# Altium schematic symbol library UC-523.SCHLIB: 31 symbols
Pins are listed as number, name and electrical type; pins without a type are passive.

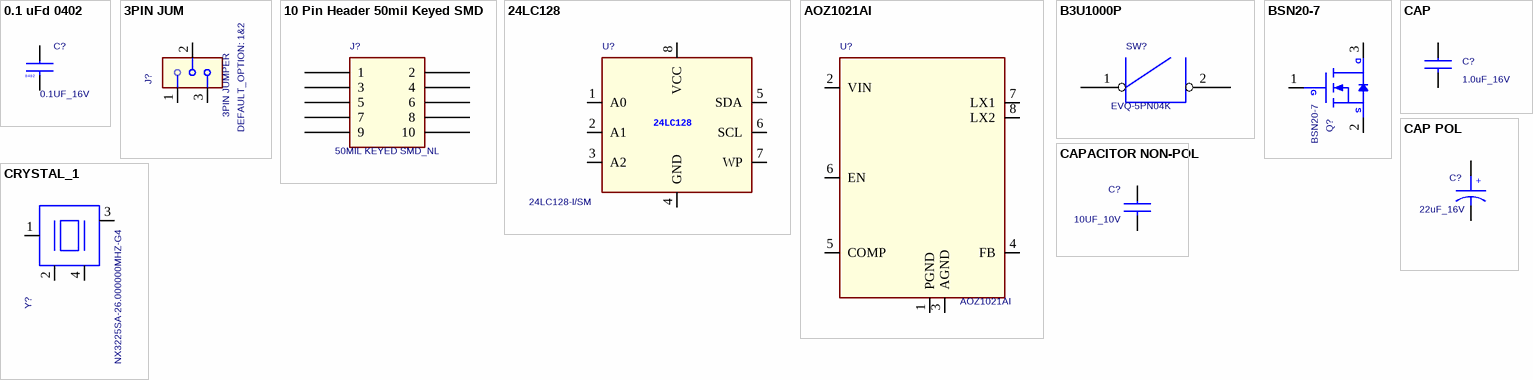
[diagram p0: symbols 0.1 uFd 0402 to CRYSTAL_1]

## 0.1 uFd 0402
designator C?, comment 0.1UF_16V
CAP .1UF 16V CERAMIC Y5V 0402; Cy_part#: 730R-10010; Manufacturer: Panasonic - ECG; Part Number: ECJ-0EF1C104Z; DEVICE: 0p1uFd_0402; CLASS: DISCRETE; ALT_SYMBOLS: C-CC0402_A; VOLTAGE: 16V; Created by: SNF
footprint CAPC1005X55M (Footprint not found)
footprint CC0402
pins: 1, 2
text: 0402

## 3PIN JUM
designator J?, comment 3PIN JUMPER  DEFAULT_OPTION: 1&2
CONN HEADER VERT 3POS .100 TIN; Part Number: 3-644456-3; Manufacturer: Tyco Electronics; Type: Single Row,3Pin Header
footprint TE_3-644456-3 (Footprint not found)
pins: 1, 2, 3

## 10 Pin Header 50mil Keyed SMD
designator J?, comment 50MIL KEYED SMD_NL
CONN HEADER 10 PIN 50MIL KEYED SMD; Part Number: FTSH-105-01-L-DV-K; Manufacturer: Samtec; Cy_part#: 420R-14312; CLASS: IO; Last Edit By: SNF; DEVICE: HDR5x2x50KS
footprint SAMTEC_FTSH-105-01-L-DV-K (Footprint not found)
footprint ftsh-105-xx-x-dv-k
pins: 1, 2, 3, 4, 5, 6, 7, 8, 9, 10

## 24LC128
designator U?, comment 24LC128-I/SM
IC EEPROM 128KBIT 400KHZ 8SOIC; Manufacturer: Microchip Technology; Lead Free: YES; Part Number: 24LC128-I/SM
footprint SOIC127P790X203-8M (Footprint not found)
footprint 8SOIC
pins: 1 A0, 2 A1, 3 A2, 4 GND, 5 SDA, 6 SCL, 7 WP, 8 VCC

## AOZ1021AI
designator U?
IC REG BUCK SYNC ADJ 3A 8SOIC; Manufacturer: Alpha & Omega Semiconductor Inc; Part Number: AOZ1021AI
footprint SOIC127P600X175-8M (Footprint not found)
footprint AOZ1021AI
pins: 1 PGND, 2 VIN, 3 AGND, 4 FB, 5 COMP, 6 EN, 7 LX1, 8 LX2

## B3U1000P
designator SW?, comment EVQ-5PN04K
Part Number: EVQ-5PN04K
footprint SW_EVQ-5PN04K (Footprint not found)
pins: 1, 2

## BSN20-7
designator Q?
MOSFET N-CH 50V 500MA SOT23; Manufacturer: Diodes Inc; PSpiceTemplate: X^@REFDES %D %G %S @MODEL; Part Number: BSN20-7
footprint SOT92P240X110-3M (Footprint not found)
pins: 1 G, 2 S, 3 D

## CAP
designator C?, comment 1.0uF_16V
CAP - CER, 1uF, 10V, +/-10%, X5R, 0402; Part Class: CAPACITORS; Num Pins: 2; Item Num: P03-15479R; RoHS Compliant: Yes; Lead Free Status: Yes
footprint CAPC1608X90M (Footprint not found)
pins: 1, 2

## CAP POL
designator C?, comment 22uF_16V
CAP TANT 22UF 16V 10% 1206; Manufacturer: Nichicon; Part Number: F951C226KQAAQ2; RoHS Compliant: Yes; Lead Free Status: No
footprint CAPCP3216X100M (Footprint not found)
pins: 1, 2
text: +

## CAPACITOR NON-POL
designator C?, comment 10UF_10V
Manufacturer: *; Part Number: *
footprint CAPC2012X145M (Footprint not found)
pins: 1, 2

## CRYSTAL_1
designator Y?, comment NX3225SA-26.000000MHZ-G4
Manufacturer: NDK; Part Number: NX3225SA-26.000000MHZ-G4
footprint OSCCC250X320X70-4M (Footprint not found)
pins: 1, 2, 3, 4

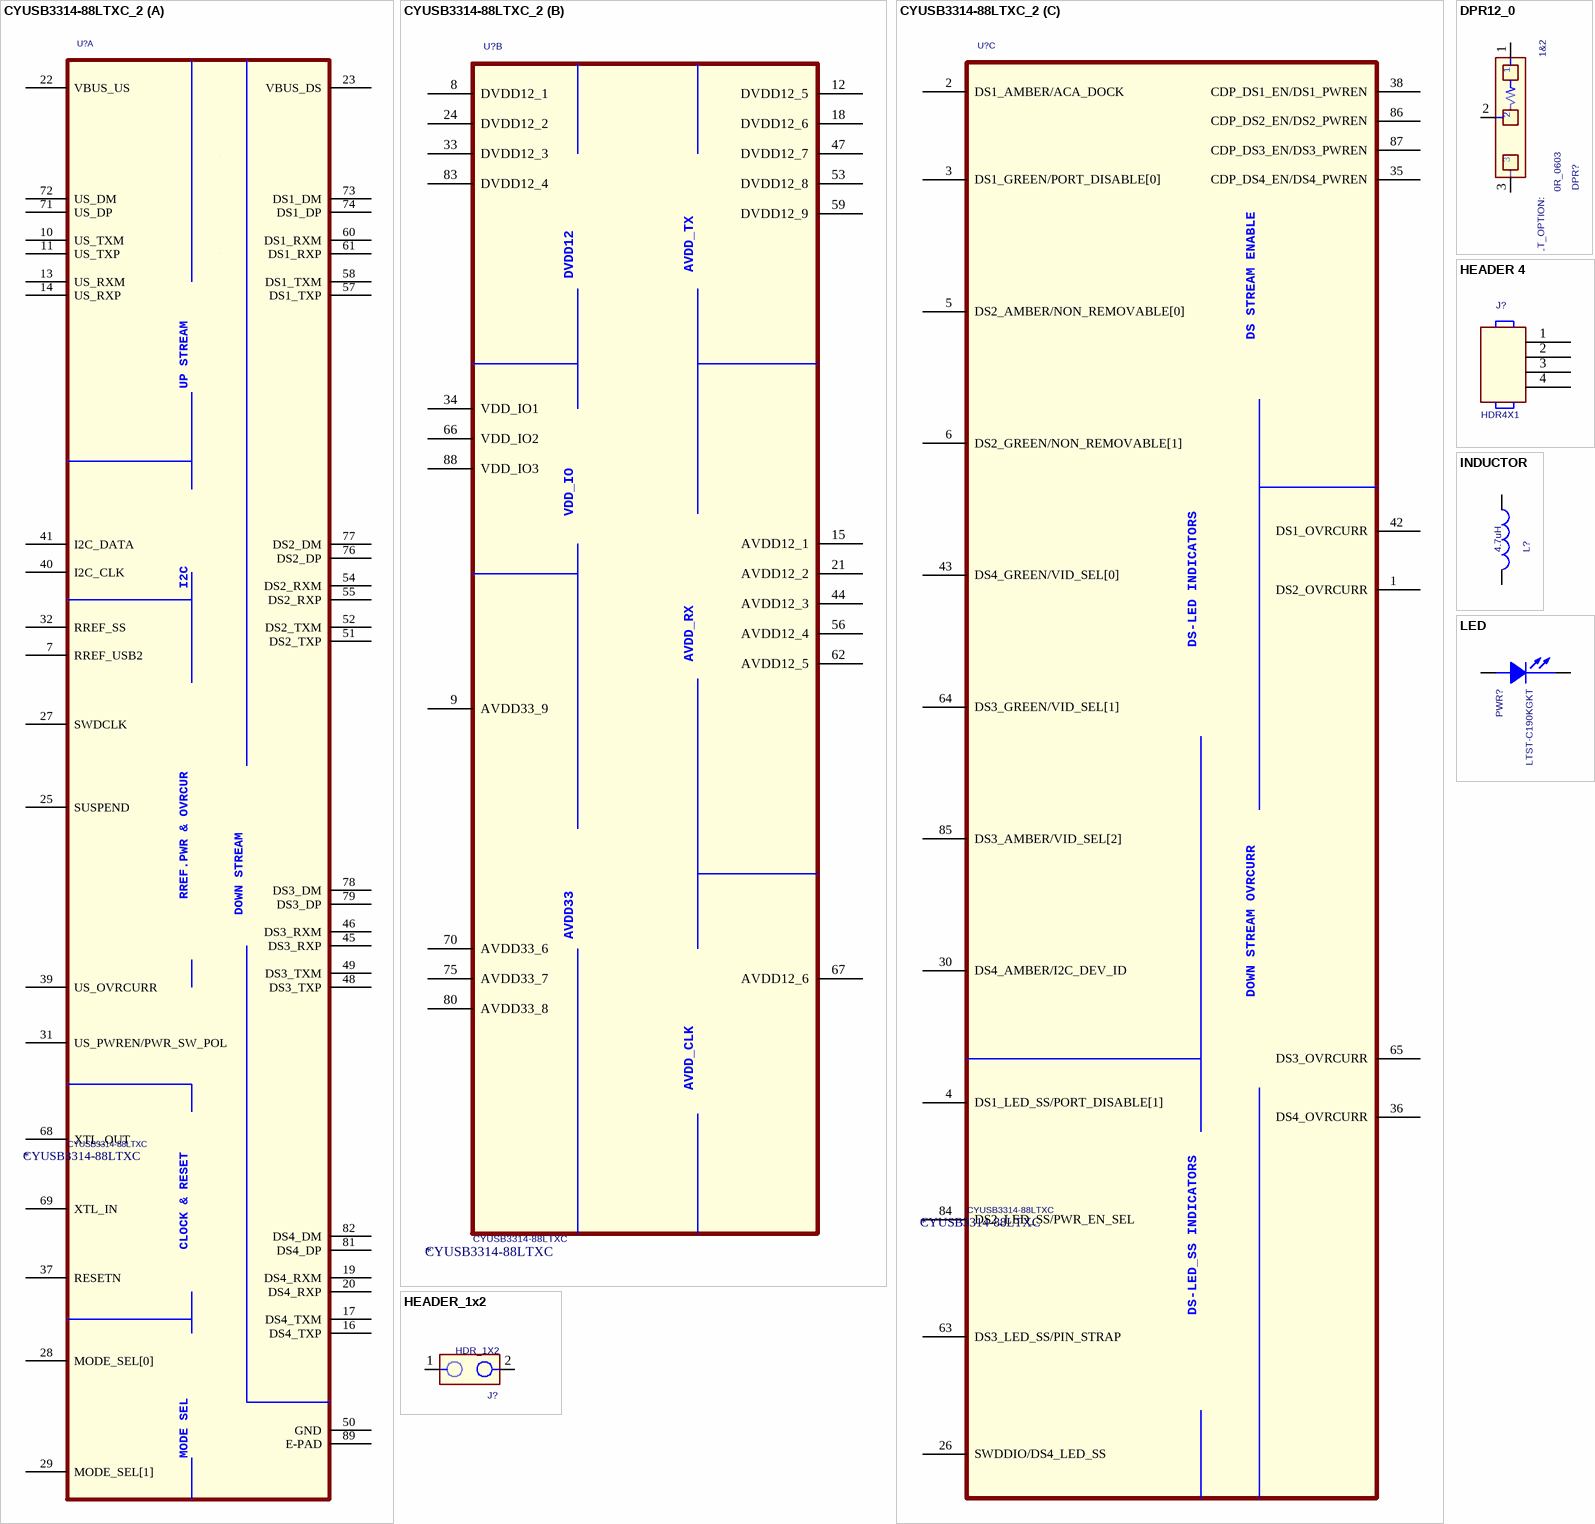
[diagram p1: symbols CYUSB3314-88LTXC_2 to LED]

## CYUSB3314-88LTXC_2
designator U?, comment CYUSB3314-88LTXC
Manufacturer: *; Part Number: CYUSB3314-88LTXC
footprint QFN40P1000X1000X100-89M (Footprint not found)
footprint QFN-88
part A pins: 7 RREF_USB2, 10 US_TXM, 11 US_TXP, 13 US_RXM, 14 US_RXP, 16 DS4_TXP, 17 DS4_TXM, 19 DS4_RXM, 20 DS4_RXP, 22 VBUS_US, 23 VBUS_DS, 25 SUSPEND, 27 SWDCLK, 28 MODE_SEL[0], 29 MODE_SEL[1], 31 US_PWREN/PWR_SW_POL, 32 RREF_SS, 37 RESETN, 39 US_OVRCURR, 40 I2C_CLK, 41 I2C_DATA, 45 DS3_RXP, 46 DS3_RXM, 48 DS3_TXP, 49 DS3_TXM, 50 GND, 51 DS2_TXP, 52 DS2_TXM, 54 DS2_RXM, 55 DS2_RXP, 57 DS1_TXP, 58 DS1_TXM, 60 DS1_RXM, 61 DS1_RXP, 68 XTL_OUT, 69 XTL_IN, 71 US_DP, 72 US_DM, 73 DS1_DM, 74 DS1_DP, 76 DS2_DP, 77 DS2_DM, 78 DS3_DM, 79 DS3_DP, 81 DS4_DP, 82 DS4_DM, 89 E-PAD
part B pins: 8 DVDD12_1, 9 AVDD33_9, 12 DVDD12_5, 15 AVDD12_1, 18 DVDD12_6, 21 AVDD12_2, 24 DVDD12_2, 33 DVDD12_3, 34 VDD_IO1, 44 AVDD12_3, 47 DVDD12_7, 53 DVDD12_8, 56 AVDD12_4, 59 DVDD12_9, 62 AVDD12_5, 66 VDD_IO2, 67 AVDD12_6, 70 AVDD33_6, 75 AVDD33_7, 80 AVDD33_8, 83 DVDD12_4, 88 VDD_IO3
part C pins: 1 DS2_OVRCURR, 2 DS1_AMBER/ACA_DOCK, 3 DS1_GREEN/PORT_DISABLE[0], 4 DS1_LED_SS/PORT_DISABLE[1], 5 DS2_AMBER/NON_REMOVABLE[0], 6 DS2_GREEN/NON_REMOVABLE[1], 26 SWDDIO/DS4_LED_SS, 30 DS4_AMBER/I2C_DEV_ID, 35 CDP_DS4_EN/DS4_PWREN, 36 DS4_OVRCURR, 38 CDP_DS1_EN/DS1_PWREN, 42 DS1_OVRCURR, 43 DS4_GREEN/VID_SEL[0], 63 DS3_LED_SS/PIN_STRAP, 64 DS3_GREEN/VID_SEL[1], 65 DS3_OVRCURR, 84 DS2_LED_SS/PWR_EN_SEL, 85 DS3_AMBER/VID_SEL[2], 86 CDP_DS2_EN/DS2_PWREN, 87 CDP_DS3_EN/DS3_PWREN
part A text: UP STREAM; I2C; RREF.PWR & OVRCUR; DOWN STREAM; CLOCK & RESET; MODE SEL
part B text: AVDD_TX; DVDD12; VDD_IO; AVDD_RX; AVDD33; AVDD_CLK
part C text: DS STREAM ENABLE; DS-LED INDICATORS; DOWN STREAM OVRCURR; DS-LED_SS INDICATORS

## DPR12_0
designator DPR?, comment 0R_0603  Mounting Status: 1&2
Resistor, 4.7K, 0402, 1/10W, 5%; Part Number: ERJ-2GEJ472X
footprint RC0603_3P (Footprint not found)
pins: 1, 2, 3
1 alternate drawing of the same symbol

## HEADER 4
designator J?, comment HDR4X1
CONN HEADER 4POS .100" SNGL GOLD; Manufacturer: Samtec Inc; Part Number: TSW-104-08-G-S; Lead Free: YES
footprint SAMTEC_TSW-104-08-G-S (Footprint not found)
pins: 1, 2, 3, 4

## HEADER_1x2
designator J?, comment HDR_1X2
Manufacturer: Samtec Inc; Part Number: TSW-102-08-G-S; Lead Free: YES
footprint SAMTEC_TSW-102-08-G-S (Footprint not found)
footprint HDR_1X2
pins: 1, 2

## INDUCTOR
designator L?, comment 4.7uH
INDUCTOR 4.7UH 2.7A 20% SMD; Part Number: NR6028T4R7M; Manufacturer: Taiyo Yuden; Lead Free: YES
footprint IND_NR6028T4R7M (Footprint not found)
pins: 1, 2

## LED
designator PWR?, comment LTST-C190KGKT
LED GREEN CLEAR 0603 SMD; Manufacturer: Lite-On; Voltage Rating: 2V; CURRENT: 20mA; Part Number: LTST-C190KGKT
footprint LEDC1608X80M (Footprint not found)
pins: 1 ANODE, 2 CATHODE

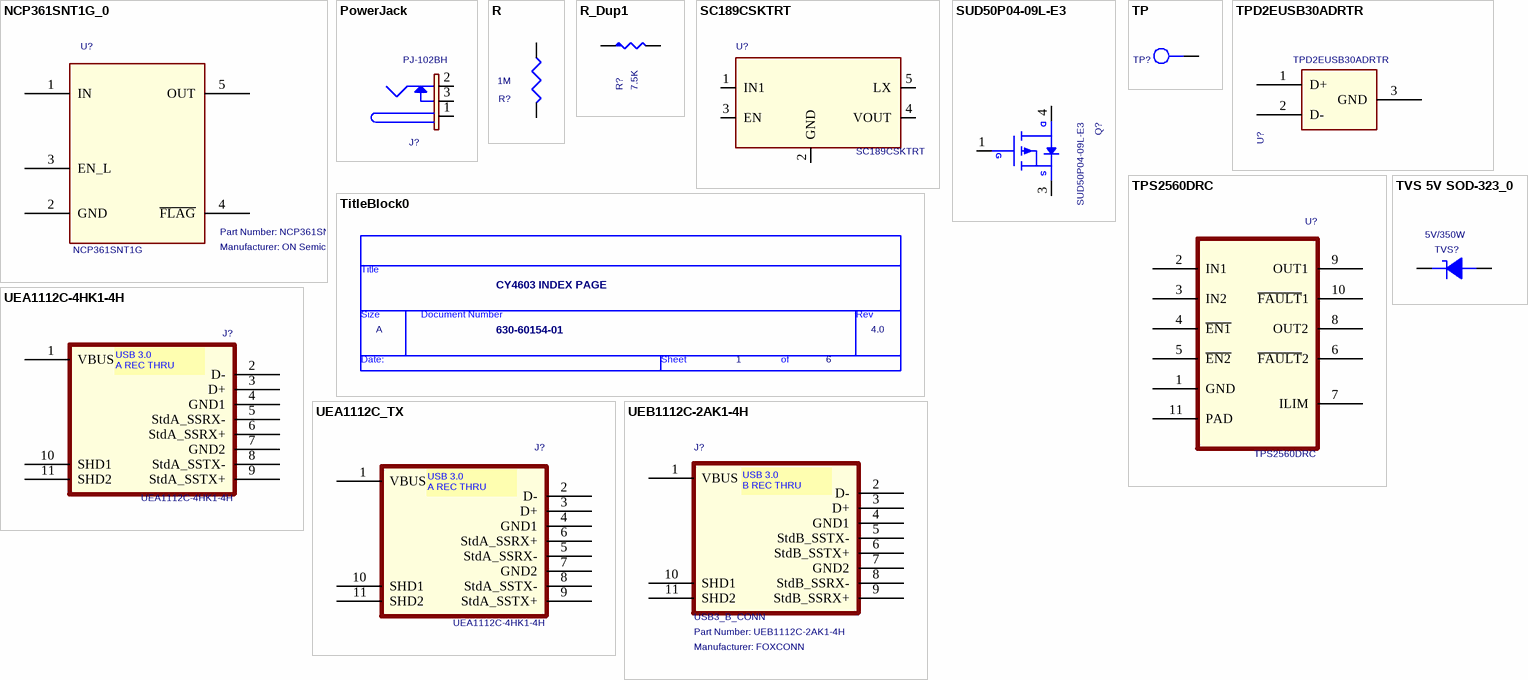
[diagram p2: symbols NCP361SNT1G_0 to UEB1112C-2AK1-4H]

## NCP361SNT1G_0
designator U?, comment NCP361SNT1G  Manufacturer: ON Semiconductor
IC USB POS OVP/OC_TSOP5; Part Number: NCP361SNT1G
footprint SOP95P275X110-5M (Footprint not found)
footprint NCP361SNT1G_TSOP5
pins: 1 IN, 2 GND, 3 EN_L, 4 ~{FLAG}, 5 OUT

## PowerJack
designator J?, comment PJ-102BH
CONN PWR JACK 2.5X5.5MM HIGH CUR; Manufacturer: CUI Inc; LEAD FREE: Y; Type: Power Jack; MFG:: CUI Inc; Part Number: PJ-102BH
footprint CUI_PJ-102BH (Footprint not found)
pins: 1, 2, 3

## R
designator R?, comment 1M
RES 1.00M OHM 1/10W 1% 0402 SMD; Manufacturer: Panasonic; Part Number: ERJ-2RKF1004X
footprint RESC1005X40M (Footprint not found)
pins: 1, 2

## R_Dup1
designator R?, comment 7.5K
RES 7.5K OHM 1/10W 1% 0603 SMD; Part Number: ERJ-3EKF7501V; Manufacturer: Panasonic - ECG; Lead Free: YES
footprint RESC1608X55M (Footprint not found)
footprint RC0603
pins: 1, 2

## SC189CSKTRT
designator U?
IC REG BUCK SYNC 1.2V SOT23-5; Manufacturer: Semtech; Part Number: SC189CSKTRT
footprint SOT95P280X145-5M (Footprint not found)
footprint SC189CSKTRT
pins: 1 IN1, 2 GND, 3 EN, 4 VOUT, 5 LX

## SUD50P04-09L-E3
designator Q?
Manufacturer: *; Part Number: SUD50P04-09L-E3
footprint TO228P991X238-3M (Footprint not found)
pins: 1 G, 3 S, 4 D

## TitleBlock0
designator *?  Page Count: 6  Page Number: 1  Page Size: A  Title: CY4603 INDEX PAGE  RevCode: 4.0  Doc: 630-60154-01  (hidden comment: TitleBlock0)  (graphical)
Page Create Date: March  8, 1995
text: Title; Size; Document Number; Rev; Date:; Sheet; of

## TP
designator TP?, comment TP_RED  (value not drawn)
TEST POINT PC MINI .040"D RED; Manufacturer: Keystone; Part Number: 5000
footprint KEYSTONE_5000 (Footprint not found)
pins: 1 TP

## TPD2EUSB30ADRTR
designator U?
Part Number: TPD2EUSB30ADRTR
footprint SOTFL35P100X50-3M (Footprint not found)
footprint SOTFL35P100X50-3M (Footprint not found)
pins: 1 D+, 2 D-, 3 GND

## TPS2560DRC
designator U?
Manufacturer: *; Part Number: TPS2560DRC
footprint SON50P300X300X100-11M (Footprint not found)
footprint SON-10
pins: 1 GND, 2 IN1, 3 IN2, 4 ~{EN1}, 5 ~{EN2}, 6 ~{FAULT}2, 7 ILIM, 8 OUT2, 9 OUT1, 10 ~{FAULT}1, 11 PAD

## TVS 5V SOD-323_0
designator TVS?, comment 5V/350W
TVS UNIDIR 350W 5V SOD-323; Part Number: SD05.TCT; Manufacturer: Dioded Inc.; CLASS: DISCRETE; DEVICE: SD05-7; LastEditBy: gir
footprint SOD2513X120M (Footprint not found)
footprint SOD323
pins: 1 K, 2 A

## UEA1112C-4HK1-4H
designator J?
9 Position Right Angle 3.0 USB Connector; Manufacturer: FOXCONN; Part Number: UEA1112C-4HK1-4H
footprint FOXCONN_UEA1112C-4HK1-4H (Footprint not found)
pins: 1 VBUS, 2 D-, 3 D+, 4 GND1, 5 StdA_SSRX-, 6 StdA_SSRX+, 7 GND2, 8 StdA_SSTX-, 9 StdA_SSTX+, 10 SHD1, 11 SHD2
text: USB 3.0 / A REC THRU

## UEA1112C_TX
designator J?, comment UEA1112C-4HK1-4H
9 Position Right Angle 3.0 USB Connector; Manufacturer: FOXCONN; Part Number: UEA1112C-4HK1-4H; Lead Free: YES
footprint FOXCONN_UEA1112C-4HK1-4H (Footprint not found)
pins: 1 VBUS, 2 D-, 3 D+, 4 GND1, 5 StdA_SSRX-, 6 StdA_SSRX+, 7 GND2, 8 StdA_SSTX-, 9 StdA_SSTX+, 10 SHD1, 11 SHD2
text: USB 3.0 / A REC THRU

## UEB1112C-2AK1-4H
designator J?, comment USB3_B_CONN  Manufacturer: FOXCONN  Part Number: UEB1112C-2AK1-4H
USB 3.0 B Series Right Angle,T/H 9 Pos; Lead Free: YES
footprint FOXCONN_UEB1112C-2AK1-4H (Footprint not found)
footprint UEB1112C-2AK1-4H
pins: 1 VBUS, 2 D-, 3 D+, 4 GND1, 5 StdB_SSTX-, 6 StdB_SSTX+, 7 GND2, 8 StdB_SSRX-, 9 StdB_SSRX+, 10 SHD1, 11 SHD2
text: USB 3.0 / B REC THRU